# Altium footprint library KNX-RELAY-8CH_V1.2.PcbLib: 11 footprints
Each footprint in its own frame and in the unit in brackets; x right, y up, seen from the top. Pads: shape width x height; smd on the part's side, far side on the other; paste and mask are expansions set on the pad; w line width, h text height; cw(c..) or ccw(c..) is an arc to the next point about the centre after c.
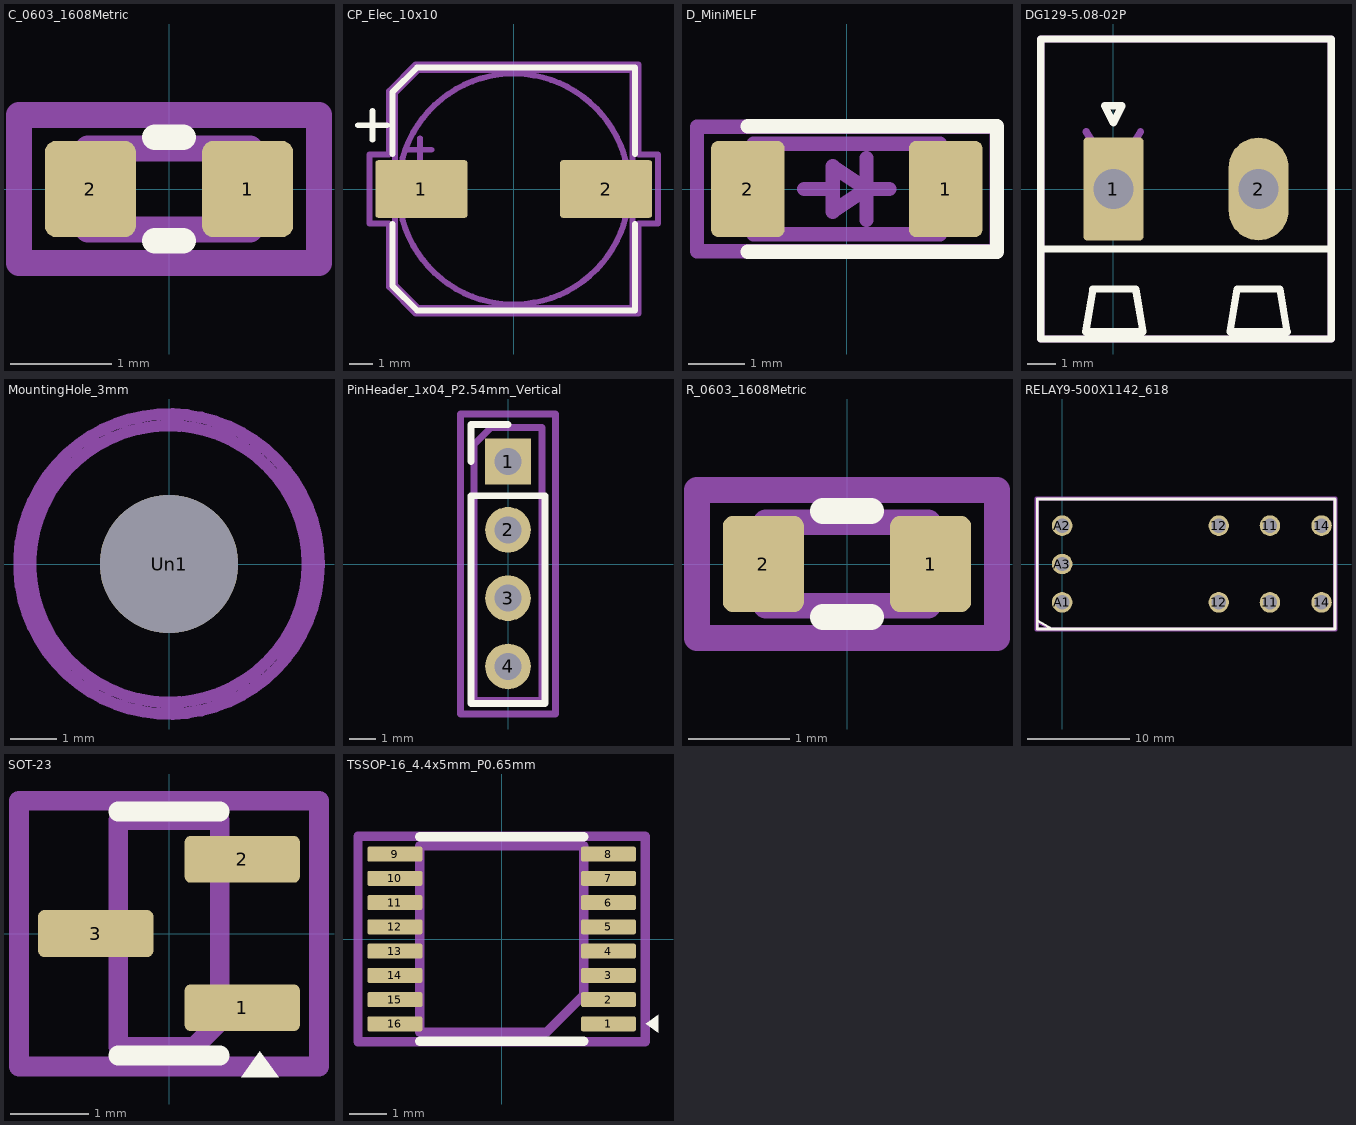
[diagram p0: the footprints below, top view; thin cyan lines are the x and y axes]

## C_0603_1608Metric [mm]
pads (2):
  rrect25% 0.9x0.95 smd mask+0: 1(0.775,0) 2(-0.775,0)
Top Overlay:
  lines w0.254: -0.141,-0.51 0.141,-0.51 ; -0.141,0.51 0.141,0.51
Mechanical 29:
  lines w0.254: -1.48,-0.73 -1.48,0.73 1.48,0.73 1.48,-0.73 -1.48,-0.73
Mechanical36:
  lines w0.254: -0.8,-0.4 -0.8,0.4 0.8,0.4 0.8,-0.4 -0.8,-0.4
  text "'.Designator'" at 0.162,0.114 h0.4

## CP_Elec_10x10 [mm]
pads (2):
  rrect10% 4x2.5 smd mask+0: 1(-4,0) 2(4,0)
Top Overlay:
  lines w0.254: -6.75,2.76 -5.5,2.76 ; -6.125,2.135 -6.125,3.385 ; -5.26,-1.51 -5.26,-4.196 -4.196,-5.26 5.26,-5.26 5.26,-1.51 ; -5.26,1.51 -5.26,4.196 -4.196,5.26 5.26,5.26 5.26,1.51
Mechanical 30:
  lines w0.254: -6.25,-1.5 -6.25,1.5 -5.4,1.5 -5.4,4.25 -4.25,5.4 5.4,5.4 5.4,1.5 6.25,1.5 6.25,-1.5 5.4,-1.5 5.4,-5.4 -4.25,-5.4 -5.4,-4.25 -5.4,-1.5 -6.25,-1.5
Mechanical35:
  circle w0.254: c0,0 r5
  lines w0.254: -4.558,1.7 -3.558,1.7 ; -4.058,1.2 -4.058,2.2 ; -5.15,-4.15 -5.15,4.15 -4.15,5.15 5.15,5.15 5.15,-5.15 -4.15,-5.15 -5.15,-4.15
  text "'.Designator'" at 0.26,0.285 h1
3D body "35SGV220M10X10.5.step": height 10.5, standoff 0, extent -5.45,-5.15 5.45,5.15

## D_MiniMELF [mm]
pads (2):
  rrect19% 1.3x1.7 smd mask+0: 1(1.75,0) 2(-1.75,0)
Top Overlay:
  lines w0.254: -1.75,-1.11 2.66,-1.11 2.66,1.11 -1.75,1.11
Mechanical 29:
  lines w0.254: -2.65,-1.1 2.65,-1.1 2.65,1.1 -2.65,1.1 -2.65,-1.1
Mechanical36:
  lines w0.254: -0.75,0 -0.25,0 ; 0.35,-0.55 0.35,0 ; 0.35,0.55 0.35,0 ; 0.75,0 0.35,0 ; 0.35,0 -0.25,0.4 -0.25,-0.4 0.35,0 ; -1.65,-0.8 -1.65,0.8 1.65,0.8 1.65,-0.8 -1.65,-0.8
  text "'.Designator'" at 0.244,-1.72 h1

## DG129-5.08-02P [mm]
pads (2):
  rrect12% 2.1x3.6 hole 1.4 mask+0: 1(0,0)
  rrect100% 2.1x3.6 hole 1.4 mask+0: 2(5.08,0)
Top Overlay:
  lines w0.254: -2.54,-2.1 7.62,-2.1 ; -2.54,-5.25 7.62,-5.25 7.62,5.25 -2.54,5.25 -2.54,-5.25 ; -0.97,-5 1.03,-5 0.78,-3.5 -0.72,-3.5 -0.97,-5 ; -0.3,2.91 0,2.31 0.3,2.91 -0.3,2.91 ; 4.08,-5 6.08,-5 5.83,-3.5 4.33,-3.5 4.08,-5
Mechanical 30:
  lines w0.254: -2.54,-5.25 7.62,-5.25 7.62,5.25 -2.54,5.25 -2.54,-5.25
Mechanical35:
  lines w0.254: -0.95,2 0,0.5 0.95,2
  text "'.Designator'" at 3.616,0.939 h1
3D body "DG129-5.08-02P-14-100A&Z(H).stp": height 19.51, standoff -3.94, extent -3.08,-4.92 8.18,5.58

## LayerMarker_4_6.35x2.54mm_TextH1mm_P1.27mm_Named_BottomMirrored [mm]
Top Layer:
  text "T" at -0.121,0.993 h1
Bottom Layer:
  text "B" at 3.932,0.993 h1

## MountingHole_3mm [mm]
pads (1):
  round 3 hole 3 mask+0: Un1(0,0)
Mechanical 25:
  circle w0.254: c0,0 r3
Mechanical 30:
  circle w0.254: c0,0 r3.25
Mechanical35:
  text "'.Designator'" at -0.284,-0.285 h1

## PinHeader_1x04_P2.54mm_Vertical [mm]
pads (4):
  rect 1.7x1.7 hole 1 mask+0: 1(0,3.81)
  round 1.7 hole 1 mask+0: 2(0,1.27) 3(0,-1.27) 4(0,-3.81)
Top Overlay:
  lines w0.254: -1.38,3.81 -1.38,5.19 0,5.19 ; -1.38,-5.19 -1.38,2.54 1.38,2.54 1.38,-5.19 -1.38,-5.19
Mechanical 30:
  lines w0.254: -1.77,-5.58 -1.77,5.58 1.77,5.58 1.77,-5.58 -1.77,-5.58
Mechanical35:
  lines w0.254: -1.27,-5.08 1.27,-5.08 1.27,5.08 -0.635,5.08 -1.27,4.445 -1.27,-5.08
  text "'.Designator'" at -0.364,0.381 h1
3D body "CVM_215299-4.stp": height 8.5, standoff -3, extent -1.26,-5.08 1.26,5.08

## R_0603_1608Metric [mm]
pads (2):
  rrect25% 0.8x0.95 smd mask+0: 1(0.825,0) 2(-0.825,0)
Top Overlay:
  lines w0.254: -0.237,-0.523 0.237,-0.523 ; -0.237,0.523 0.237,0.523
Mechanical 29:
  lines w0.254: -1.48,-0.73 -1.48,0.73 1.48,0.73 1.48,-0.73 -1.48,-0.73
Mechanical36:
  lines w0.254: -0.8,-0.413 -0.8,0.413 0.8,0.413 0.8,-0.413 -0.8,-0.413
  text "'.Designator'" at -0.163,-0.113 h0.4

## RELAY9-500X1142_618 [mm]
pads (9):
  round 2 hole 1.4 mask+0: 11(20.3,-3.75) 11(20.3,3.75) 12(15.3,-3.75) 12(15.3,3.75) 14(25.34,-3.75) 14(25.34,3.75) A1(0,-3.75) A2(0,3.75) A3(0,0)
Top Overlay:
  lines w0.254: -2.42,-5.514 -0.95,-6.35 ; -2.42,-6.35 -2.42,6.35 26.65,6.35 26.65,-6.35 -2.42,-6.35
Mechanical 30:
  lines w0.254: -2.55,-6.45 -2.55,6.45 26.75,6.45 26.75,-6.45 -2.55,-6.45
Mechanical35:
  lines w0.254: -2.4,-5.715 -1.13,-6.35 ; -2.4,-6.35 -2.4,6.35 26.607,6.35 26.607,-6.35 -2.4,-6.35
  text "'.Designator'" at 9.7,-0.235 h1
3D body "c-8-1393239-7-d-3d.stp": height 15.7, standoff -3.6, extent -2.308,-6.477 26.692,6.223

## SOT-23 [mm]
pads (3):
  rrect25% 1.475x0.6 smd mask+0: 1(0.937,-0.95) 2(0.937,0.95) 3(-0.937,0)
Top Overlay:
  region: 0.923,-1.84 1.402,-1.84 1.162,-1.51
  lines w0.254: -0.65,-1.56 0,-1.56 0.65,-1.56 ; -0.65,1.56 0,1.56 0.65,1.56
Mechanical 29:
  lines w0.254: -1.92,-1.7 -1.92,1.7 1.92,1.7 1.92,-1.7 -1.92,-1.7
Mechanical36:
  lines w0.254: -0.65,-1.45 -0.65,1.45 0.65,1.45 0.65,-1.125 0.325,-1.45 -0.65,-1.45
  text "'.Designator'" at 0.144,0.108 h0.32

## TSSOP-16_4.4x5mm_P0.65mm [mm]
pads (16):
  rrect25% 1.475x0.4 smd mask+0: 1(2.863,-2.275) 2(2.863,-1.625) 3(2.863,-0.975) 4(2.863,-0.325) 5(2.863,0.325) 6(2.863,0.975) 7(2.863,1.625) 8(2.863,2.275) 9(-2.863,2.275) 10(-2.863,1.625) 11(-2.863,0.975) 12(-2.863,0.325) 13(-2.863,-0.325) 14(-2.863,-0.975) 15(-2.863,-1.625) 16(-2.863,-2.275)
Top Overlay:
  region: 3.86,-2.275 4.19,-2.515 4.19,-2.035
  lines w0.254: -2.2,-2.735 0,-2.735 2.2,-2.735 ; -2.2,2.735 0,2.735 2.2,2.735
Mechanical 29:
  lines w0.254: -3.85,-2.75 -3.85,2.75 3.85,2.75 3.85,-2.75 -3.85,-2.75
Mechanical36:
  lines w0.254: -2.2,-2.5 1.2,-2.5 2.2,-1.5 2.2,2.5 -2.2,2.5 -2.2,-2.5
  text "'.Designator'" at 0.43,0.282 h1